# EAGLE library part LM3224 (library Elecrow_IC)
615kHZ/1.25MHz Step-up PWM DC/DC Converter http://www.ti.com/lit/ds/symlink/lm3224.pdf
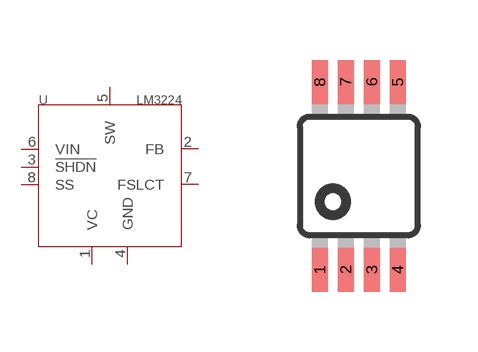
[diagram p26: symbol with the pads of MSOP8; footprint MSOP8]

Designator prefix U

## LM3224-MSOP8  [MSOP8]
1  VC
2  FB
3  !SHDN
4  GND
5  SW
6  VIN
7  FSLCT
8  SS

## Footprint MSOP8 (pad centres in mm)
8M, 8-Lead, 0.118" Wide, Miniature Small Outline Package MSOP 8M-Package doc1097.pdf
smd 0.4 x 1.1: 1 -0.975,-2.35; 2 -0.325,-2.35; 3 0.325,-2.35; 4 0.975,-2.35; 5 0.975,2.35; 6 0.325,2.35; 7 -0.325,2.35; 8 -0.975,2.35